# EAGLE library part HEADER_1X14 (library heck)
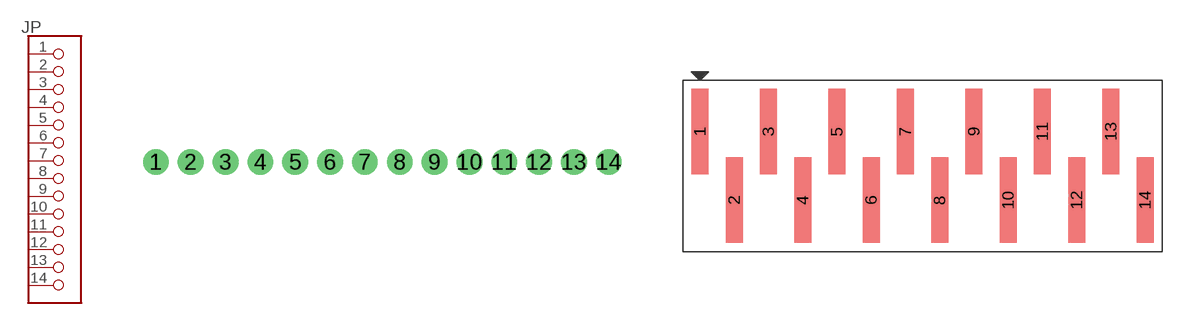
[diagram p54: symbol with the pads of HEADER_100MIL_1X14_PTH; footprints HEADER_100MIL_1X14_PTH, HEADER_100MIL_1X14_SMD_MALE]

Designator prefix JP

## HEADER_1X14_100MIL_PTH  [HEADER_100MIL_1X14_PTH]
1  1  pas
2  2  pas
3  3  pas
4  4  pas
5  5  pas
6  6  pas
7  7  pas
8  8  pas
9  9  pas
10  10  pas
11  11  pas
12  12  pas
13  13  pas
14  14  pas

## HEADER_1X14_100MIL_SMD_MALE  [HEADER_100MIL_1X14_SMD_MALE]
Pads as for HEADER_100MIL_1X14_PTH

## Footprint HEADER_100MIL_1X14_PTH (pad centres in mm)
drill 1.016 pad 1.88: 1 -16.51,0; 2 -13.97,0; 3 -11.43,0; 4 -8.89,0; 5 -6.35,0; 6 -3.81,0; 7 -1.27,0; 8 1.27,0; 9 3.81,0; 10 6.35,0; 11 8.89,0; 12 11.43,0; 13 13.97,0; 14 16.51,0

## Footprint HEADER_100MIL_1X14_SMD_MALE (pad centres in mm)
smd 1.27 x 6.35: 1 -16.51,2.54; 2 -13.97,-2.54; 3 -11.43,2.54; 4 -8.89,-2.54; 5 -6.35,2.54; 6 -3.81,-2.54; 7 -1.27,2.54; 8 1.27,-2.54; 9 3.81,2.54; 10 6.35,-2.54; 11 8.89,2.54; 12 11.43,-2.54; 13 13.97,2.54; 14 16.51,-2.54